# Altium schematic symbol library resitor-0805.SchLib: 1 symbol
Pins are listed as number, name and electrical type; pins without a type are passive.

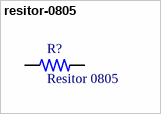
[diagram p0: symbol resitor-0805]

## resitor-0805
designator R?, comment Resitor 0805
1/2W Chip Resistor 0805 (2012 Metric) Pulse Withstanding Thick Film
footprint resitor-0805
pins: 1, 2